# Altium integrated library Valdis_Components.IntLib: 12 symbols
Pins are listed as number, name and electrical type; pins without a type are passive.

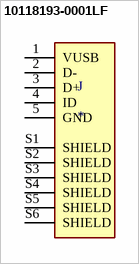
[diagram p0: symbol 10118193-0001LF]

## 10118193-0001LF
designator J
USB - micro B USB 2.0 Receptacle Connector 5 Position Surface Mount, Right Angle; Through Hole; MP: 10118193-0001LF; MF: Amphenol ICC; Availability: Unavailable; SnapEDA_Link: https://www.snapeda.com/parts/10118193-0001LF/Amphenol%20FCI/view-part/2758989/?ref=snap; Price: None; Value: *; Package: None
footprint FCI_10118193-0001LF
pins: 1 VUSB, 2 D-, 3 D+, 4 ID, 5 GND, S1 SHIELD, S2 SHIELD, S3 SHIELD, S4 SHIELD, S5 SHIELD, S6 SHIELD


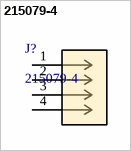
[diagram p1: symbol 215079-4]

## 215079-4
designator J?
No Description Available; Mfr_Name: TE Connectivity; Copyright: Copyright (C) 2022 Ultra Librarian. All rights reserved.; Manufacturer_Part_Number: 215079-4; RefDes: RefDes; Type: DEV
footprint CONN_215079-4_TYC
pins: 1, 2, 3, 4


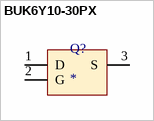
[diagram p2: symbol BUK6Y10-30PX]

## BUK6Y10-30PX
designator Q?
footprint TO127P600X120-5N
pins: 1 D, 2 G, 3 S


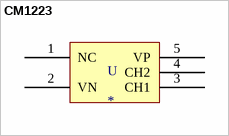
[diagram p3: symbol CM1223]

## CM1223
designator U
footprint SOT23-5 (SOT143-4 as used in SP0503BAHTG)
pins: 1 NC, 2 VN, 3 CH1, 4 CH2, 5 VP


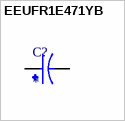
[diagram p4: symbol EEUFR1E471YB]

## EEUFR1E471YB
designator C?
470F 25V Aluminum Electrolytic Capacitors Radial, Can 8000 Hrs @ 105C; MF: Panasonic; MP: EEUFR1E471YB; Value: *; Price: None; Availability: In Stock; SnapEDA_Link: https://www.snapeda.com/parts/EEUFR1E471YB/Panasonic/view-part/5797024/?ref=snap; Check_prices: https://www.snapeda.com/parts/EEUFR1E471YB/Panasonic/view-part/5797024/?ref=eda; Package: RADIAL-2 Panasonic
footprint CAPPRD500W60D800H1500
pins: N, P


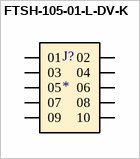
[diagram p5: symbol FTSH-105-01-L-DV-K]

## FTSH-105-01-L-DV-K
designator J?
footprint FTSH-105-01-XXX-DV-K
pins: 1 01, 2 02, 3 03, 4 04, 5 05, 6 06, 7 07, 8 08, 9 09, 10


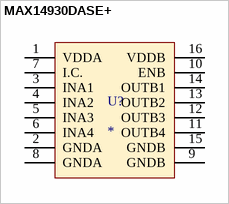
[diagram p6: symbol MAX14930DASE+]

## MAX14930DASE+
designator U?
footprint 21-0041_S16+1_MXM
pins: 1 VDDA, 2 GNDA, 3 INA1, 4 INA2, 5 INA3, 6 INA4, 7 I.C., 8 GNDA, 9 GNDB, 10 ENB, 11 OUTB4, 12 OUTB3, 13 OUTB2, 14 OUTB1, 15 GNDB, 16 VDDB


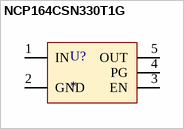
[diagram p7: symbol NCP164CSN330T1G]

## NCP164CSN330T1G
designator U?
footprint SOP95P275X110-5N
pins: 1 IN, 2 GND, 3 EN, 4 PG, 5 OUT


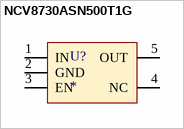
[diagram p8: symbol NCV8730ASN500T1G]

## NCV8730ASN500T1G
designator U?
footprint TSSOP5
pins: 1 IN, 2 GND, 3 EN, 4 NC, 5 OUT


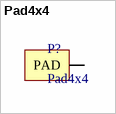
[diagram p9: symbol Pad4x4]

## Pad4x4
designator P?
footprint PCBComponent_1
pins: 1 PAD


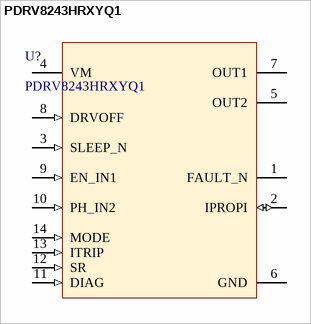
[diagram p10: symbol PDRV8243HRXYQ1]

## PDRV8243HRXYQ1
designator U?
No Description Available; Mfr_Name: Texas Instruments; Type: DEV; RefDes: RefDes; Copyright: Copyright (C) 2022 Ultra Librarian. All rights reserved.; Manufacturer_Part_Number: PDRV8243HRXYQ1
footprint RXY0014A-MFG
pins: 1 FAULT_N (oc), 2 IPROPI (io), 3 SLEEP_N (in), 4 VM (power), 5 OUT2, 6 GND (power), 7 OUT1, 8 DRVOFF (in), 9 EN_IN1 (in), 10 PH_IN2 (in), 11 DIAG (in), 12 SR (in), 13 ITRIP (in), 14 MODE (in)


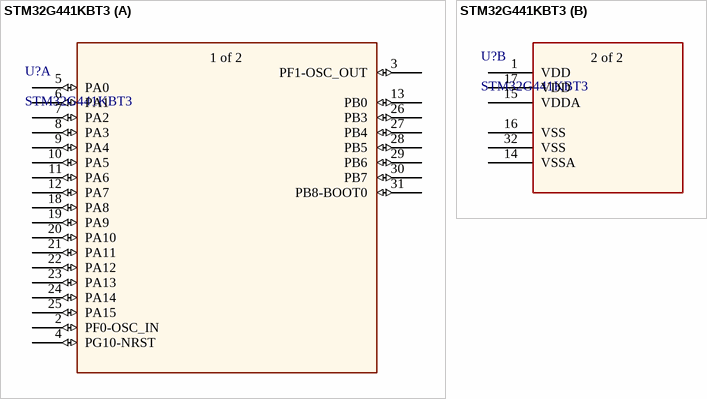
[diagram p11: symbol STM32G441KBT3]

## STM32G441KBT3
designator U?
No Description Available; SourceLibrary: Add_to_database_2020-11-05; Built_By: EMA_Cory; Vendor: STMicroelectronics; Datasheet: https://www.st.com/resource/en/datasheet/stm32g441kb.pdf; Copyright: Copyright (C) 2018 Accelerated Designs. All rights reserved; Manufacturer_Part_Number: STM32G441KBT3; RefDes: RefDes; Type: DEV
footprint LQFP32_7X7_STM
part A pins: 2 PF0-OSC_IN (io), 3 PF1-OSC_OUT (io), 4 PG10-NRST (io), 5 PA0 (io), 6 PA1 (io), 7 PA2 (io), 8 PA3 (io), 9 PA4 (io), 10 PA5 (io), 11 PA6 (io), 12 PA7 (io), 13 PB0 (io), 18 PA8 (io), 19 PA9 (io), 20 PA10 (io), 21 PA11 (io), 22 PA12 (io), 23 PA13 (io), 24 PA14 (io), 25 PA15 (io), 26 PB3 (io), 27 PB4 (io), 28 PB5 (io), 29 PB6 (io), 30 PB7 (io), 31 PB8-BOOT0 (io)
part B pins: 1 VDD (power), 14 VSSA, 15 VDDA (power), 16 VSS, 17 VDD (power), 32 VSS
part A text: 1 of 2
part B text: 2 of 2